# EAGLE library part NUCLEO_F303K8 (library nucleo_F303K8)
Arduino Nano V3.0 Overview: The Arduino Nano is a small, complete, and breadboard-friendly board based on the ATmega328 (Arduino Nano 3.x) or ATmega168 (Arduino Nano 2.x). It has more or less the same functionality of the Arduino Duemilanove, but in a different package. It lacks only a DC power jack, and works with a Mini-B USB cable instead of a standard one. The Nano was designed and is being produced by Gravitech. Specifications: Microcontroller Atmel ATmega168 or ATmega328 Operating Voltage (logic level) 5 V Input Voltage (recommended) 7-12 V Input Voltage (limits) 6-20 V Digital I/O Pins 14 (of which 6 provide PWM output) Analog Input Pins 8 DC Current per I/O Pin 40 mA Flash Memory 16 KB (ATmega168) or 32 KB (ATmega328) of which 2 KB used by bootloader SRAM 1 KB (ATmega168) or 2 KB (ATmega328) EEPROM 512 bytes (ATmega168) or 1 KB (ATmega328) Clock Speed 16 MHz Dimensions 0.73" x 1.70" Length 45 mm Width 18 mm Weigth 5 g Power: The Arduino Nano can be powered via the Mini-B USB connection, 6-20V unregulated external power supply (pin 30), or 5V regulated external power supply (pin 27). The power source is automatically selected to the highest voltage source. Memory: The ATmega168 has 16 KB of flash memory for storing code (of which 2 KB is used for the bootloader); the ATmega328 has 32 KB, (also with 2 KB used for the bootloader). The ATmega168 has 1 KB of SRAM and 512 bytes of EEPROM (which can be read and written with the EEPROM library); the ATmega328 has 2 KB of SRAM and 1 KB of EEPROM. Input and Output: Each of the 14 digital pins on the Nano can be used as an input or output, using pinMode(), digitalWrite(), and digitalRead() functions. They operate at 5 volts. Each pin can provide or receive a maximum of 40 mA and has an internal pull-up resistor (disconnected by default) of 20-50 kOhms. In addition, some pins have specialized functions. Visit Arduino - ArduinoBoardNano <https://www.arduino.cc/en/Main/ArduinoBoardNano>
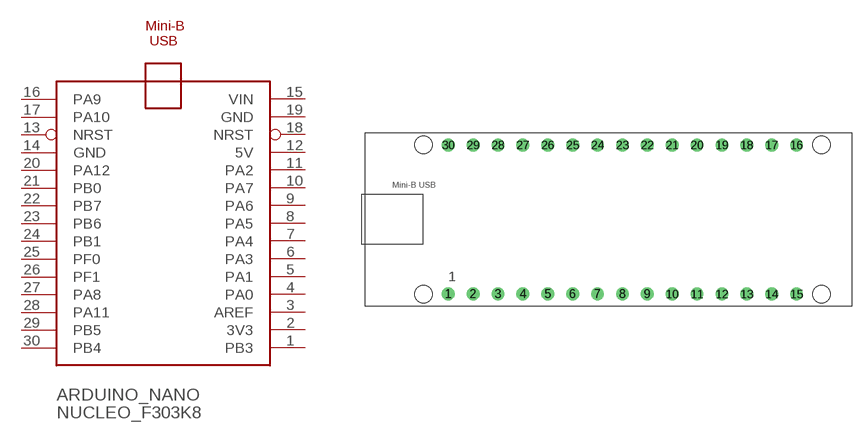
[diagram p0: symbol with the pads of NUCLEO_F303K8; footprint NUCLEO_F303K8]

Designator prefix ARDUINO_NANO

## NUCLEO_F303K8  [NUCLEO_F303K8]
1  PB3
2  3V3  out
3  AREF  in
4  PA0
5  PA1
6  PA3
7  PA4
8  PA5
9  PA6
10  PA7
11  PA2
12  5V  pwr
13  NRST  in
14  GND  pwr
15  VIN  pwr
16  PA9
17  PA10
18  NRST  in
19  GND  pwr
20  PA12
21  PB0
22  PB7
23  PB6
24  PB1
25  PF0
26  PF1
27  PA8
28  PA11
29  PB5
30  PB4

## Footprint NUCLEO_F303K8 (pad centres in mm)
Arduino Nano V3.0 The Nano was designed and is being produced by Gravitech. Gravitech Arduino Nano V3.0 <http://www.gravitech.us/arna30wiatp.html>
drill 0.8: 1 0,0; 2 2.54,0; 3 5.08,0; 4 7.62,0; 5 10.16,0; 6 12.7,0; 7 15.24,0; 8 17.78,0; 9 20.32,0; 10 22.86,0; 11 25.4,0; 12 27.94,0; 13 30.48,0; 14 33.02,0; 15 35.56,0; 16 35.56,15.24; 17 33.02,15.24; 18 30.48,15.24; 19 27.94,15.24; 20 25.4,15.24; 21 22.86,15.24; 22 20.32,15.24; 23 17.78,15.24; 24 15.24,15.24; 25 12.7,15.24; 26 10.16,15.24; 27 7.62,15.24; 28 5.08,15.24; 29 2.54,15.24; 30 0,15.24
hole 1.778 at -2.54,0
hole 1.778 at -2.54,15.24
hole 1.778 at 38.1,15.24
hole 1.778 at 38.1,0